# EAGLE library part LM311 (library foe-scale)
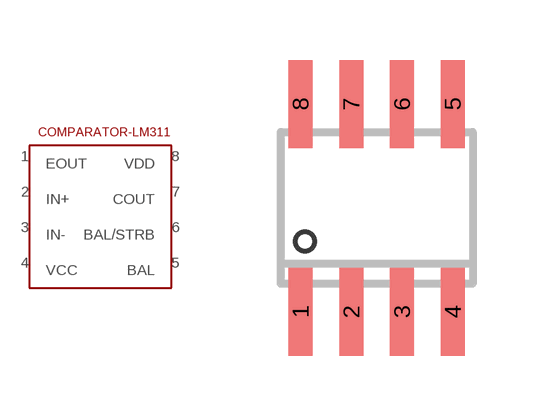
[diagram p17: symbol with the pads of SOIC8; footprint SOIC8]

Designator prefix -

## LM311  [SOIC8]
1  EOUT
2  IN+
3  IN-
4  VCC
5  BAL
6  BAL/STRB
7  COUT
8  VDD

## Footprint SOIC8 (pad centres in mm)
Small Outline IC
smd 0.6 x 2.2: 1 -1.905,-2.6; 2 -0.635,-2.6; 3 0.635,-2.6; 4 1.905,-2.6; 5 1.905,2.6; 6 0.635,2.6; 7 -0.635,2.6; 8 -1.905,2.6